# EAGLE library part MICRO_BCU_6_2.54 (library MicroBCU_PCB)
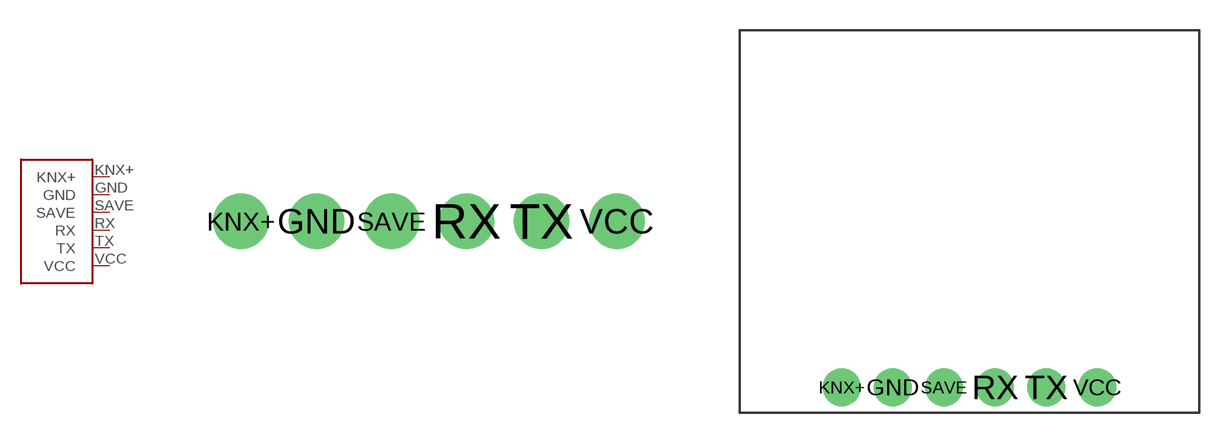
[diagram p0: symbol with the pads of MICRO_BCU_6_2.54_PINS; footprints MICRO_BCU_6_2.54_PINS, MICRO_BCU_6_2.54_PCB]

Designator prefix -

## MICRO_BCU_6_2.54HEADER  [MICRO_BCU_6_2.54_PINS]
GND  GND
KNX+  KNX+
RX  RX
SAVE  SAVE
TX  TX
VCC  VCC

## MICRO_BCU_6_2.54PCB  [MICRO_BCU_6_2.54_PCB]
Pads as for MICRO_BCU_6_2.54_PINS

## MICRO_BCU_6_2.54DOCU  [MICRO_BCU_6_2.54_DOCU]
Pads as for MICRO_BCU_6_2.54_PINS

## MICRO_BCU_6_2.54DOCU_D1.4  [MICRO_BCU_6_2.54_D1.4_DOCU]
Pads as for MICRO_BCU_6_2.54_PINS

## Footprint MICRO_BCU_6_2.54_PINS (pad centres in mm)
drill 1.016 pad 1.88: GND 2.54,0; KNX+ 0,0; RX 7.62,0; SAVE 5.08,0; TX 10.16,0; VCC 12.7,0

## Footprint MICRO_BCU_6_2.54_PCB (pad centres in mm)
drill 1.016 pad 1.88: GND -3.81,-7.62; KNX+ -6.35,-7.62; RX 1.27,-7.62; SAVE -1.27,-7.62; TX 3.81,-7.62; VCC 6.35,-7.62

## Footprint MICRO_BCU_6_2.54_DOCU (pad centres in mm)
drill 1.016 pad 1.88: GND -3.81,-7.62; KNX+ -6.35,-7.62; RX 1.27,-7.62; SAVE -1.27,-7.62; TX 3.81,-7.62; VCC 6.35,-7.62

## Footprint MICRO_BCU_6_2.54_D1.4_DOCU (pad centres in mm)
drill 1.5 pad 1.93: GND -3.81,-7.62; KNX+ -6.35,-7.62; RX 1.27,-7.62; SAVE -1.27,-7.62; TX 3.81,-7.62; VCC 6.35,-7.62